# Altium schematic symbol library AT24C02D-MAHM-T.SchLib: 1 symbol
Pins are listed as number, name and electrical type; pins without a type are passive.

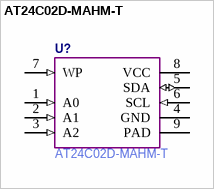
[diagram p0: symbol AT24C02D-MAHM-T]

## AT24C02D-MAHM-T
designator U?
EEPROM PB/HALO free NiPdAu, 1.7V; Manufacturer Part Number: AT24C02D-MAHM-T
pins: 1 A0 (in), 2 A1 (in), 3 A2 (in), 4 GND (power), 5 SDA (io), 6 SCL (in), 7 WP (in), 8 VCC (power), 9 PAD (power)